# Altium schematic symbol library Switch, Button.SchLib: 4 symbols
Pins are listed as number, name and electrical type; pins without a type are passive.

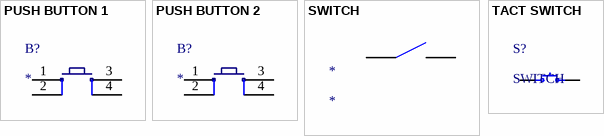
[diagram p0: symbols PUSH BUTTON 1 to TACT SWITCH]

## PUSH BUTTON 1
designator B?
footprint PUSH BUTTON 1
pins: 1, 2, 3, 4

## PUSH BUTTON 2
designator B?
footprint PUSH BUTTON 2
pins: 1, 2, 3, 4

## SWITCH
designator *
footprint SWITCH
pins: 1, 2

## TACT SWITCH
designator S?, comment SWITCH
SMD 2 Pin Switch; ComponentLink1Description: Datasheet; ComponentLink1URL: https://www.te.com/commerce/DocumentDelivery/DDEController?Action=srchrtrv&DocNm=1437566-3&DocType=Customer+Drawing&DocLang=English
footprint TE FSMSMTR
pins: 1, 2